# Altium schematic symbol library Trans_Chips.SchLib: 4 symbols
Pins are listed as number, name and electrical type; pins without a type are passive.

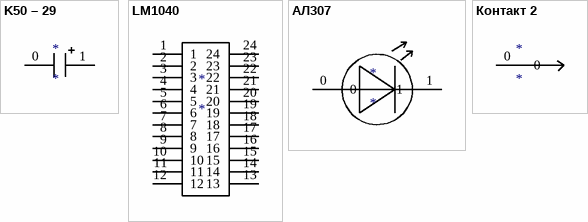
[diagram p0: symbols K50 – 29 to Контакт 2]

## K50 – 29
designator *
pins: 0, 1

## LM1040
designator *
pins: 1, 2, 3, 4, 5, 6, 7, 8, 9, 10, 11, 12, 13, 14, 15, 16, 17, 18, 19, 20, 21, 22, 23, 24

## АЛ307
designator *
pins: 0, 1

## Контакт 2
designator *
pins: 0